# Altium schematic symbol library led_lcd.schlib: 11 symbols
Pins are listed as number, name and electrical type; pins without a type are passive.

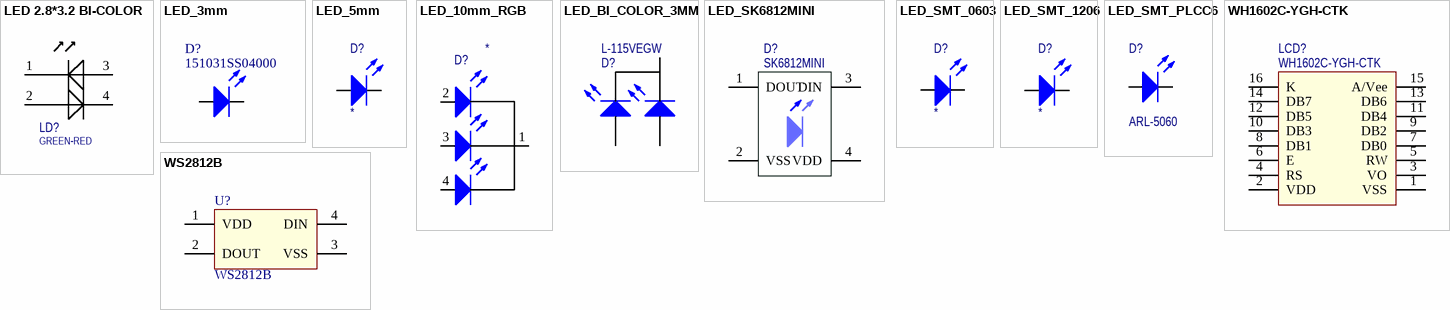
[diagram p0: symbols LED 2.8*3.2 BI-COLOR to WS2812B]

## LED 2.8*3.2 BI-COLOR
designator LD?, comment GREEN-RED
footprint LEDSMT
pins: 1, 2, 3, 4

## LED_3mm
designator D?, comment 151031SS04000
footprint LED_3mm
pins: 1 A, 2 K

## LED_5mm
designator D?
Typical INFRARED GaAs LED; Value: *; Color: *
footprint LED_5mm
footprint LED_5mm_long
pins: 1 A, 2 K

## LED_10mm_RGB
designator D?
10mm_RGB; Value: *; Color: *
footprint LED_10mm_backSMD
pins: 1, 2, 3, 4

## LED_BI_COLOR_3MM
designator D?, comment L-115VEGW
footprint LED_BI_3mm
pins: 1 AR, 2 K, 3 AG

## LED_SK6812MINI
designator D?, comment SK6812MINI
LED_DIGTAL_RGB; Value: *; Color: *
footprint SK6812MINI
pins: 1 DOUT, 2 VSS, 3 DIN, 4 VDD

## LED_SMT_0603
designator D?
Value: *; Color: *; Part: *
footprint LED_0603
pins: 1 A, 2 K

## LED_SMT_1206
designator D?
Typical INFRARED GaAs LED; Value: *; Color: *
footprint LED_1206
pins: 1 A, 2 K

## LED_SMT_PLCC6
designator D?, comment ARL-5060
footprint PLCC-6 (SMD LED)
pins: 1 A, 2 K

## WH1602C-YGH-CTK
designator LCD?
LatestRevisionDate: 17-Jul-2002; LatestRevisionNote: Re-released for DXP Platform.; Publisher: Altium Limited
footprint WH1602C-YGH-CTK
pins: 1 VSS, 2 VDD, 3 VO, 4 RS, 5 RW, 6 E, 7 DB0, 8 DB1, 9 DB2, 10 DB3, 11 DB4, 12 DB5, 13 DB6, 14 DB7, 15 A/Vee, 16 K, 17 hidden, 18 hidden, 19 hidden, 20 hidden

## WS2812B
designator U?
Intelligent LED; Part: WS2812B; Alternative Part: -
footprint WS2812B
pins: 1 VDD, 2 DOUT, 3 VSS, 4 DIN